# EAGLE library part WIRELESS-NRF24L01-PA-EXT (library hosho)
2.4 GHz Wireless Module based on NRF24L01 chip with preamplifier and external antenna
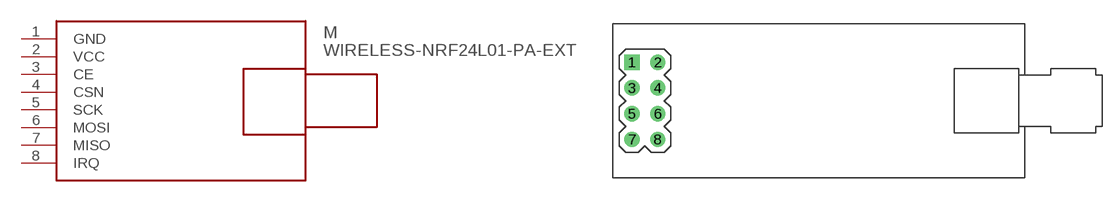
[diagram p10: symbol with the pads of WIRELESS-NRD24L01-PA-EXT; footprint WIRELESS-NRD24L01-PA-EXT]

Designator prefix M

## WIRELESS-NRF24L01-PA-EXT  [WIRELESS-NRD24L01-PA-EXT]
1  GND  pwr
2  VCC  pwr
3  CE
4  CSN
5  SCK
6  MOSI
7  MISO
8  IRQ

## Footprint WIRELESS-NRD24L01-PA-EXT (pad centres in mm)
2.4 GHz Wireless Module based on NRF24L01 chip with preamplifier and external antenna
drill 1 square: 1 -18.415,3.81
drill 1: 2 -15.875,3.81; 3 -18.415,1.27; 4 -15.875,1.27; 5 -18.415,-1.27; 6 -15.875,-1.27; 7 -18.415,-3.81; 8 -15.875,-3.81